# Altium footprint library Pulser Driver1.PcbLib: 50 footprints (part 3 of 4)
Each footprint in its own frame and in the unit in brackets; x right, y up, seen from the top. Pads: shape width x height; smd on the part's side, far side on the other; paste and mask are expansions set on the pad; w line width, h text height; cw(c..) or ccw(c..) is an arc to the next point about the centre after c.
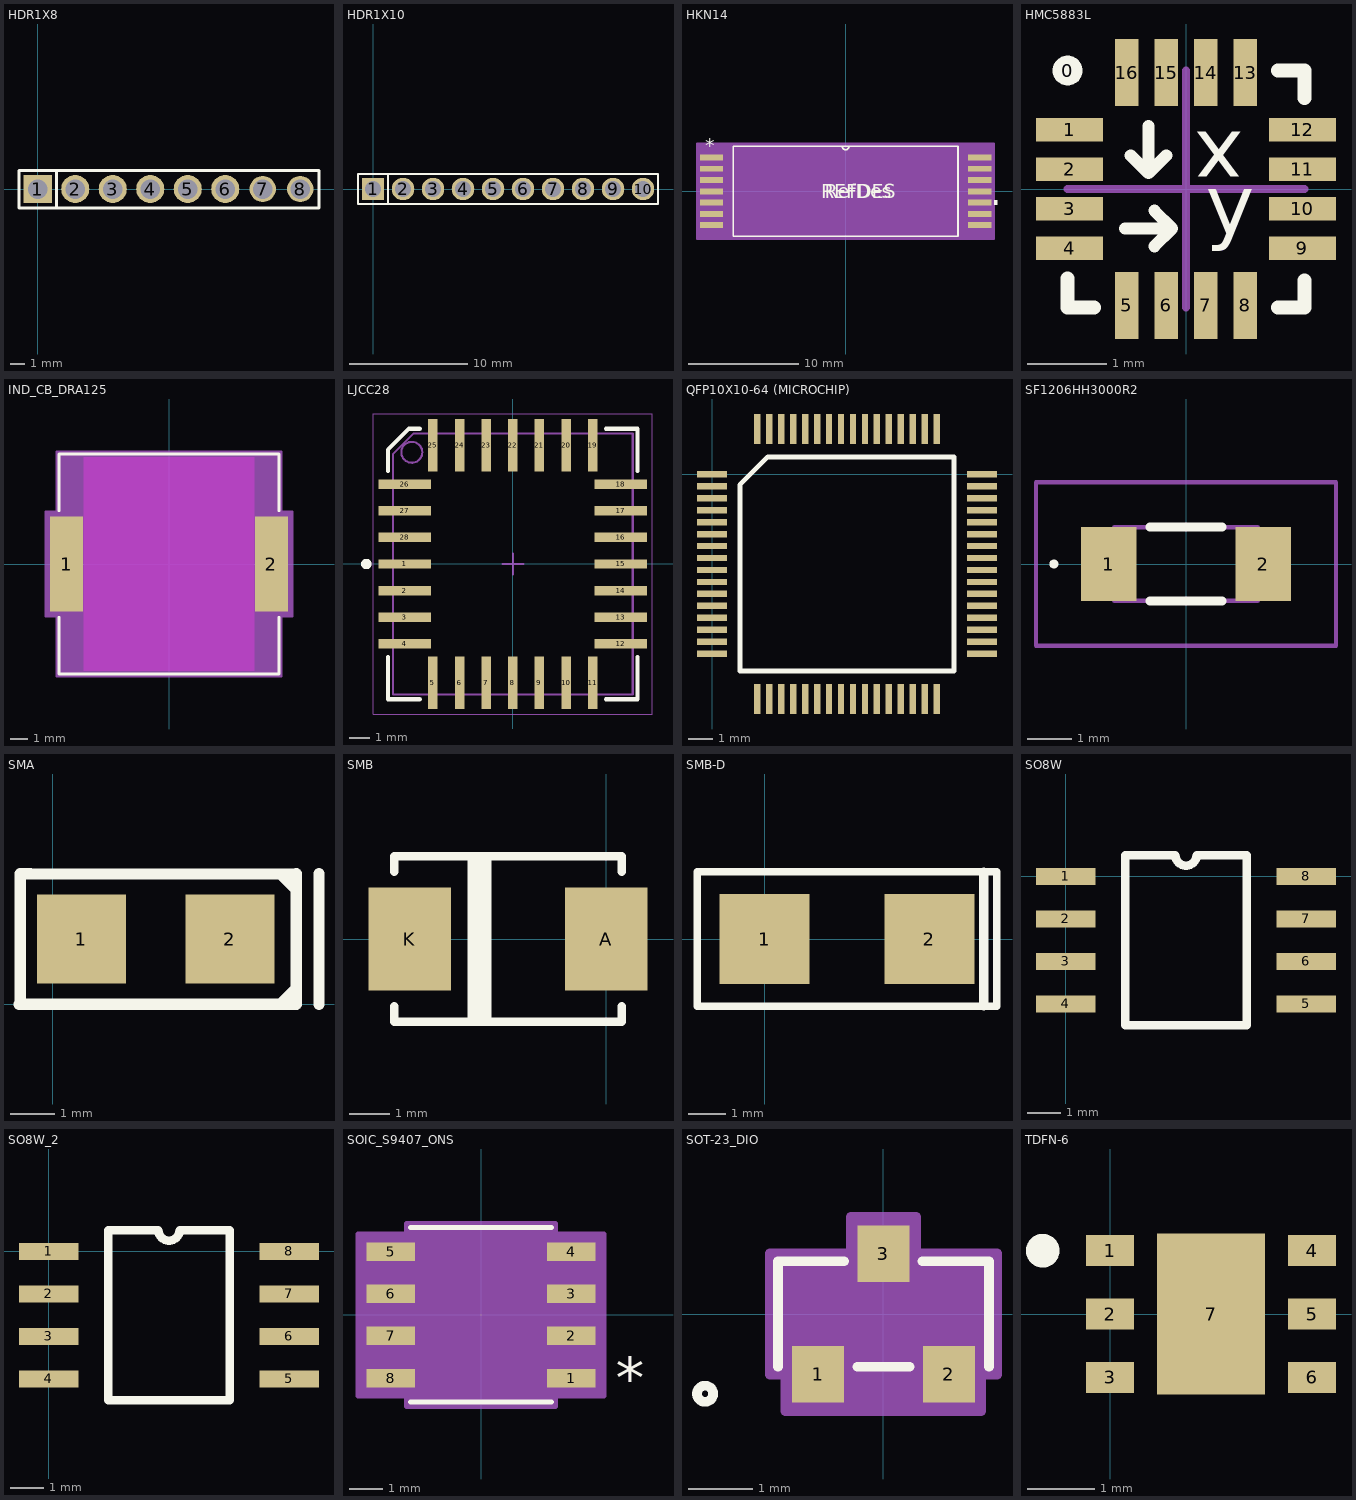
[diagram p2: the footprints below, top view; thin cyan lines are the x and y axes]

## HDR1X8 [mil]
pads (8):
  rect 75x75 hole 52: 1(0,0)
  round 75 hole 52: 2(100,0) 3(200,0) 4(300,0) 5(400,0) 6(500,0)
  round 70 hole 52: 7(600,0) 8(700,0)
Top Overlay:
  lines w8: 50,-50 50,50 ; -50,-50 -50,50 750,50 750,-50 -50,-50

## HDR1X10 [mil]
pads (10):
  rect 75x75 hole 52: 1(0,0)
  round 75 hole 52: 2(100,0) 3(200,0) 4(300,0) 5(400,0) 6(500,0) 7(600,0) 8(700,0) 9(800,0) 10(900,0)
Top Overlay:
  lines w8: 50,-50 50,50 ; -50,-50 -50,50 950,50 950,-50 -50,-50

## HKN14 [mil]
pads (14):
  rect 83x21 smd paste-41.5 mask-41.5: 1(-477.5,120.47) 2(-477.5,80.31) 3(-477.5,40.16) 4(-477.5,0) 5(-477.5,-40.16) 6(-477.5,-80.31) 7(-477.5,-120.47) 8(477.5,-120.47) 9(477.5,-80.31) 10(477.5,-40.16) 11(477.5,0) 12(477.5,40.16) 13(477.5,80.31) 14(477.5,120.47)
Top Overlay:
  region: 529,-32.66 539,-32.66 539,-47.66 529,-47.66
  lines w6: -12,160 ccw(c0,160) 12,160 ; -400,-160 400,-160 400,160 -400,160 -400,-160
  text "REFDES" at -87.5,-25 h50
  text "*" at -500,136.47 h50
  text "RefDes" at -75,-25 h50
Mechanical 13:
  lines w0: -12,160 ccw(c0,160) 12,160
  lines w1: -505,-129.97 -505,-110.97 -400,-110.97 -400,-129.97 -505,-129.97 ; -505,-89.81 -505,-70.81 -400,-70.81 -400,-89.81 -505,-89.81 ; -505,-49.66 -505,-30.66 -400,-30.66 -400,-49.66 -505,-49.66 ; -505,-9.5 -505,9.5 -400,9.5 -400,-9.5 -505,-9.5 ; -505,30.66 -505,49.66 -400,49.66 -400,30.66 -505,30.66 ; -505,70.81 -505,89.81 -400,89.81 -400,70.81 -505,70.81 ; -505,110.97 -505,129.97 -400,129.97 -400,110.97 -505,110.97 ; -400,-160 400,-160 400,160 -400,160 -400,-160 ; 400,-129.97 400,-110.97 505,-110.97 505,-129.97 400,-129.97 ; 400,-89.81 400,-70.81 505,-70.81 505,-89.81 400,-89.81 ; 400,-49.66 400,-30.66 505,-30.66 505,-49.66 400,-49.66 ; 400,-9.5 400,9.5 505,9.5 505,-9.5 400,-9.5 ; 400,30.66 400,49.66 505,49.66 505,30.66 400,30.66 ; 400,70.81 400,89.81 505,89.81 505,70.81 400,70.81 ; 400,110.97 400,129.97 505,129.97 505,110.97 400,110.97
  text "*" at -500,136.47 h50
  text "RefDes2" at -87.5,-25 h50
Mechanical 15:
  region: 529,-170 -529,-170 -529,170 529,170
  lines w6: -529,-170 -529,170 529,170 529,-170 -529,-170
3D body "HKN14.step": height 120.12, standoff 0, extent -505,-160 505,160

## HMC5883L [mm] "HMC5883L 3-Axis Magnetometer"
height 0.9
pads (17):
  round 0.381 on Top Overlay: 0(-1.5,1.5)
  rect 0.85x0.3 smd: 1(-1.475,0.75) 2(-1.475,0.25) 3(-1.475,-0.25) 4(-1.475,-0.75) 9(1.475,-0.75) 10(1.475,-0.25) 11(1.475,0.25) 12(1.475,0.75)
  rect 0.3x0.85 smd: 5(-0.75,-1.475) 6(-0.25,-1.475) 7(0.25,-1.475) 8(0.75,-1.475) 13(0.75,1.475) 14(0.25,1.475) 15(-0.25,1.475) 16(-0.75,1.475)
Top Overlay:
  lines w0.152: -0.775,-0.5 -0.175,-0.5 ; -0.7,0.425 -0.475,0.2 ; -0.475,0.8 -0.475,0.2 ; -0.4,-0.725 -0.175,-0.5 ; -0.4,-0.275 -0.175,-0.5 ; -0.25,0.425 -0.475,0.2
  lines w0.178: -1.5,-1.131 -1.5,-1.5 -1.165,-1.5 ; 1.165,-1.5 1.5,-1.5 1.5,-1.159 ; 1.165,1.5 1.5,1.5 1.5,1.155
  text "y" at 0.25,-0.575 h0.76
  text "x" at 0.725,0.725 h0.76
  text "." at 0,0.05 h0.76
Mechanical 1:
  lines w0.1: -1.5,0 1.5,0 ; 0,-1.5 0,1.5

## IND_CB_DRA125 [mil]
pads (2):
  rect 75.5x217 smd paste+0 mask+0: 1(-233.75,0) 2(233.75,0)
Top Layer keep-out:
  region: -194,-244 -194,244 194,244 194,-244
Top Overlay:
  lines w6: -251,-121.6 -251,-251 251,-251 251,-121.6 ; -251,121.6 -251,251 251,251 251,121.6
Mechanical 13:
  lines w1: -246,-246 -246,246 246,246 246,-246 -246,-246
Mechanical 15:
  region: -256,-118.5 -281.5,-118.5 -281.5,118.5 -256,118.5 -256,256 256,256 256,118.5 281.5,118.5 281.5,-118.5 256,-118.5 256,-256 -256,-256
  lines w6: -281.5,-118.5 -256,-118.5 -256,-256 256,-256 256,-118.5 281.5,-118.5 281.5,118.5 256,118.5 256,256 -256,256 -256,118.5 -281.5,118.5 -281.5,-118.5
3D body "IND_CB_DRA125.step": height 235.98, standoff 0, extent -245.98,-246.1 245.98,246.1

## LJCC28 [mm] "LCC, 28-Pins, Body 11.43x12.45mmx2.82mm, Pitch 1.27mm, IPC Medium Density"
height 2.82
pads (28):
  rect 2.5x0.45 smd: 1(-5.15,0) 2(-5.15,-1.27) 3(-5.15,-2.54) 4(-5.15,-3.81) 12(5.15,-3.81) 13(5.15,-2.54) 14(5.15,-1.27) 15(5.15,0) 16(5.15,1.27) 17(5.15,2.54) 18(5.15,3.81) 26(-5.15,3.81) 27(-5.15,2.54) 28(-5.15,1.27)
  rect 0.45x2.5 smd: 5(-3.81,-5.65) 6(-2.54,-5.65) 7(-1.27,-5.65) 8(0,-5.65) 9(1.27,-5.65) 10(2.54,-5.65) 11(3.81,-5.65) 19(3.81,5.65) 20(2.54,5.65) 21(1.27,5.65) 22(0,5.65) 23(-1.27,5.65) 24(-2.54,5.65) 25(-3.81,5.65)
Top Overlay:
  circle w0.25: c-6.985,0 r0.125
  lines w0.2: -5.95,-4.435 -5.95,-6.45 -4.435,-6.45 ; -5.95,4.435 -5.95,5.45 -4.95,6.45 -4.435,6.45 ; 4.435,-6.45 5.95,-6.45 5.95,-4.435 ; 4.435,6.45 5.95,6.45 5.95,4.435
Mechanical 13:
  circle w0.1: c-4.815,5.325 r0.5
  lines w0.1: -5.715,-6.225 -5.715,5.225 -4.715,6.225 5.715,6.225 5.715,-6.225 -5.715,-6.225
Mechanical 15:
  lines w0.05: -6.65,-7.15 -6.65,7.15 6.65,7.15 6.65,-7.15 -6.65,-7.15
  lines w0.1: -0.5,0 0.5,0 ; 0,-0.5 0,0.5
3D body "LCCS127P1143X1245X282-28N.step": height 2.82, standoff 0, extent -5.84,-6.35 5.84,6.35

## QFP10X10-64 (MICROCHIP) [mm]
pads (64):
  rect 1.254x0.27 smd: 1(0,0) 2(0,-0.5) 3(0,-1) 4(0,-1.5) 5(0,-2) 6(0,-2.5) 7(0,-3) 8(0,-3.5) 9(0,-4) 10(0,-4.5) 11(0,-5) 12(0,-5.5) 13(0,-6) 14(0,-6.5) 15(0,-7) 16(0,-7.5) 33(11.254,-7.5) 34(11.254,-7) 35(11.254,-6.5) 36(11.254,-6) 37(11.254,-5.5) 38(11.254,-5) 39(11.254,-4.5) 40(11.254,-4) 41(11.254,-3.5) 42(11.254,-3) 43(11.254,-2.5) 44(11.254,-2) 45(11.254,-1.5) 46(11.254,-1) 47(11.254,-0.5) 48(11.254,0)
  rect 0.27x1.254 smd: 17(1.877,-9.377) 18(2.377,-9.377) 19(2.877,-9.377) 20(3.377,-9.377) 21(3.877,-9.377) 22(4.377,-9.377) 23(4.877,-9.377) 24(5.377,-9.377) 25(5.877,-9.377) 26(6.377,-9.377) 27(6.877,-9.377) 28(7.377,-9.377) 29(7.877,-9.377) 30(8.377,-9.377) 31(8.877,-9.377) 32(9.377,-9.377) 49(9.377,1.877) 50(8.877,1.877) 51(8.377,1.877) 52(7.877,1.877) 53(7.377,1.877) 54(6.877,1.877) 55(6.377,1.877) 56(5.877,1.877) 57(5.377,1.877) 58(4.877,1.877) 59(4.377,1.877) 60(3.877,1.877) 61(3.377,1.877) 62(2.877,1.877) 63(2.377,1.877) 64(1.877,1.877)
Top Overlay:
  lines w0.2: 1.162,-8.215 10.092,-8.215 10.092,0.715 2.324,0.715 1.162,-0.447 1.162,-8.215

## SF1206HH3000R2 [mm]
pads (2):
  rect 1.25x1.65 smd: 1(-1.725,0) 2(1.725,0)
Top Overlay:
  lines w0.1: -3,0 cw(c-2.95,0) -2.9,0 cw(c-2.95,0) -3,0
  lines w0.2: -0.8,-0.825 0.8,-0.825 ; -0.8,0.825 0.8,0.825
Mechanical 13:
  lines w0.1: -1.6,-0.825 -1.6,0.825 1.6,0.825 1.6,-0.825 -1.6,-0.825
Mechanical 15:
  lines w0.1: -3.35,-1.825 -3.35,1.825 3.35,1.825 3.35,-1.825 -3.35,-1.825
3D body "SF-1206HH3000R-2.stp": height 1, standoff 0, extent -1.601,-0.83 1.599,0.82

## SMA [mm]
height 1.45
pads (2):
  rect 2x2 smd: 1(0.64,1.46) 2(3.97,1.46)
Top Overlay:
  lines w0.254: 4.877,2.92 4.979,2.92 ; 4.928,0 4.953,0 ; 5.105,0 5.436,0.33 ; 5.105,2.92 5.409,2.616 ; 5.46,0 4.6,0 0,0 -0.762,0 -0.737,0.025 -0.737,2.921 -0.51,2.921 -0.509,2.92 0,2.92 4.6,2.92 5.46,2.92 ; 5.46,0.001 5.46,2.921 ; 5.969,0 5.969,2.921

## SMB [mil]
pads (2):
  rect 80x100 smd: A(0,0) K(-190,0)
Top Overlay:
  lines w8: -205,-65 -205,-80 15,-80 15,-65 ; -205,65 -205,80 15,80 15,65 ; -130,-80 -130,80 ; -125,-80 -125,80 ; -120,-80 -120,80 ; -115,-80 -115,80
3D body "SMB.STEP": height 89.57, standoff -1.18, extent -201,-70 11.6,71.73

## SMB-D [mm]
pads (2):
  rect 2.4x2.4 smd: 1(0,0) 2(4.4,0)
Top Overlay:
  lines w0.2: -1.8,-1.8 6.2,-1.8 6.2,1.8 -1.8,1.8 -1.8,-1.8
  lines w0.254: 5.842,-1.778 5.842,1.778

## SO8W [mil]
pads (8):
  rect 70x20 smd: 1(0,0) 2(0,-50) 3(0,-100) 4(0,-150) 5(283,-150) 6(283,-100) 7(283,-50) 8(283,0)
Top Overlay:
  lines w10: 70,-175 70,25 129,25 ccw(c141.5,25) 154,25 213,25 213,-175 70,-175

## SO8W_2 [mil]
pads (8):
  rect 70x20 smd: 1(0,0) 2(0,-50) 3(0,-100) 4(0,-150) 5(283,-150) 6(283,-100) 7(283,-50) 8(283,0)
Top Overlay:
  lines w10: 70,-175 70,25 129,25 ccw(c141.5,25) 154,25 213,25 213,-175 70,-175

## SOIC_S9407_ONS [mil]
pads (8):
  rect 57.5x22 smd paste+0 mask+0: 1(107.25,-75) 2(107.25,-25) 3(107.25,25) 4(107.25,75) 5(-107.25,75) 6(-107.25,25) 7(-107.25,-25) 8(-107.25,-75)
Top Overlay:
  lines w6: -83.5,-103.5 83.5,-103.5 ; -83.5,103.5 83.5,103.5
  text "*" at 160,-100 h50
Mechanical 13:
  lines w0: -12,98.5 ccw(c0,98.5) 12,98.5
  lines w1: -122,-85 -78.5,-85 -78.5,-65 -122,-65 -122,-85 ; -122,-35 -78.5,-35 -78.5,-15 -122,-15 -122,-35 ; -122,15 -78.5,15 -78.5,35 -122,35 -122,15 ; -122,65 -78.5,65 -78.5,85 -122,85 -122,65 ; -78.5,-98.5 -78.5,98.5 78.5,98.5 78.5,-98.5 -78.5,-98.5 ; 78.5,-85 122,-85 122,-65 78.5,-65 78.5,-85 ; 78.5,-35 122,-35 122,-15 78.5,-15 78.5,-35 ; 78.5,15 122,15 122,35 78.5,35 78.5,15 ; 78.5,65 122,65 122,85 78.5,85 78.5,65
Mechanical 15:
  region: -88.5,-96 -146,-96 -146,96 -88.5,96 -88.5,108.5 88.5,108.5 88.5,96 146,96 146,-96 88.5,-96 88.5,-108.5 -88.5,-108.5
  lines w6: -146,-96 -88.5,-96 -88.5,-108.5 88.5,-108.5 88.5,-96 146,-96 146,96 88.5,96 88.5,108.5 -88.5,108.5 -88.5,96 -146,96 -146,-96

## SOT-23_DIO [mil]
pads (3):
  rect 32x35 smd paste+0 mask+0: 1(-40.35,-37.2) 2(40.35,-37.2) 3(0,37.2)
Top Overlay:
  circle w6: c-110.04,-49.21 r5
  lines w6: -65.04,-32.56 -65.04,32.56 -24.14,32.56 ; -16.21,-32.56 16.21,-32.56 ; 24.14,32.56 65.04,32.56 65.04,-32.56
Mechanical 13:
  circle w0: c-50.04,-17.56 r5
  lines w1: -60.04,-27.56 60.04,-27.56 60.04,27.56 -60.04,27.56 -60.04,-27.56 ; -50.39,-49.21 -50.39,-27.56 -30.32,-27.56 -30.32,-49.21 -50.39,-49.21 ; -10.04,27.56 10.04,27.56 10.04,49.21 -10.04,49.21 -10.04,27.56 ; 30.32,-49.21 30.32,-27.56 50.39,-27.56 50.39,-49.21 30.32,-49.21
Mechanical 15:
  region: -70.04,-37.56 -70.04,37.56 -20.04,37.56 -20.04,60 20,60 20.04,37.56 70.04,37.56 70.04,-37.56 60.39,-37.56 60.39,-60 -60.39,-60 -60.39,-37.56
  region: 60.04,-27.56 -60.04,-27.56 -60.04,27.56 60.04,27.56
  lines w6: -60.39,-60 -60.39,-37.56 -70.04,-37.56 -70.04,37.56 -20.04,37.56 -20,60 ; -60,-60 60,-60 ; -20.04,60 20.04,60 20.04,37.56 70.04,37.56 70.04,-37.56 60.39,-37.56 60.39,-60

## TDFN-6 [mm] "Maxim 1-Wire TDFN 6-Pin 3mm x 3mm"
height 0.8
pads (7):
  rect 0.71x0.46 smd: 1(0,0.94) 2(0,0) 3(0,-0.94) 4(3,0.94) 5(3,0) 6(3,-0.94)
  rect 1.6x2.39 smd: 7(1.5,0)
Top Overlay:
  circle w0.3: c-1,0.94 r0.1